# Altium integrated library TI Data Converters Analog to Digital Converter.IntLib: 2197 symbols (part 34 of 168)
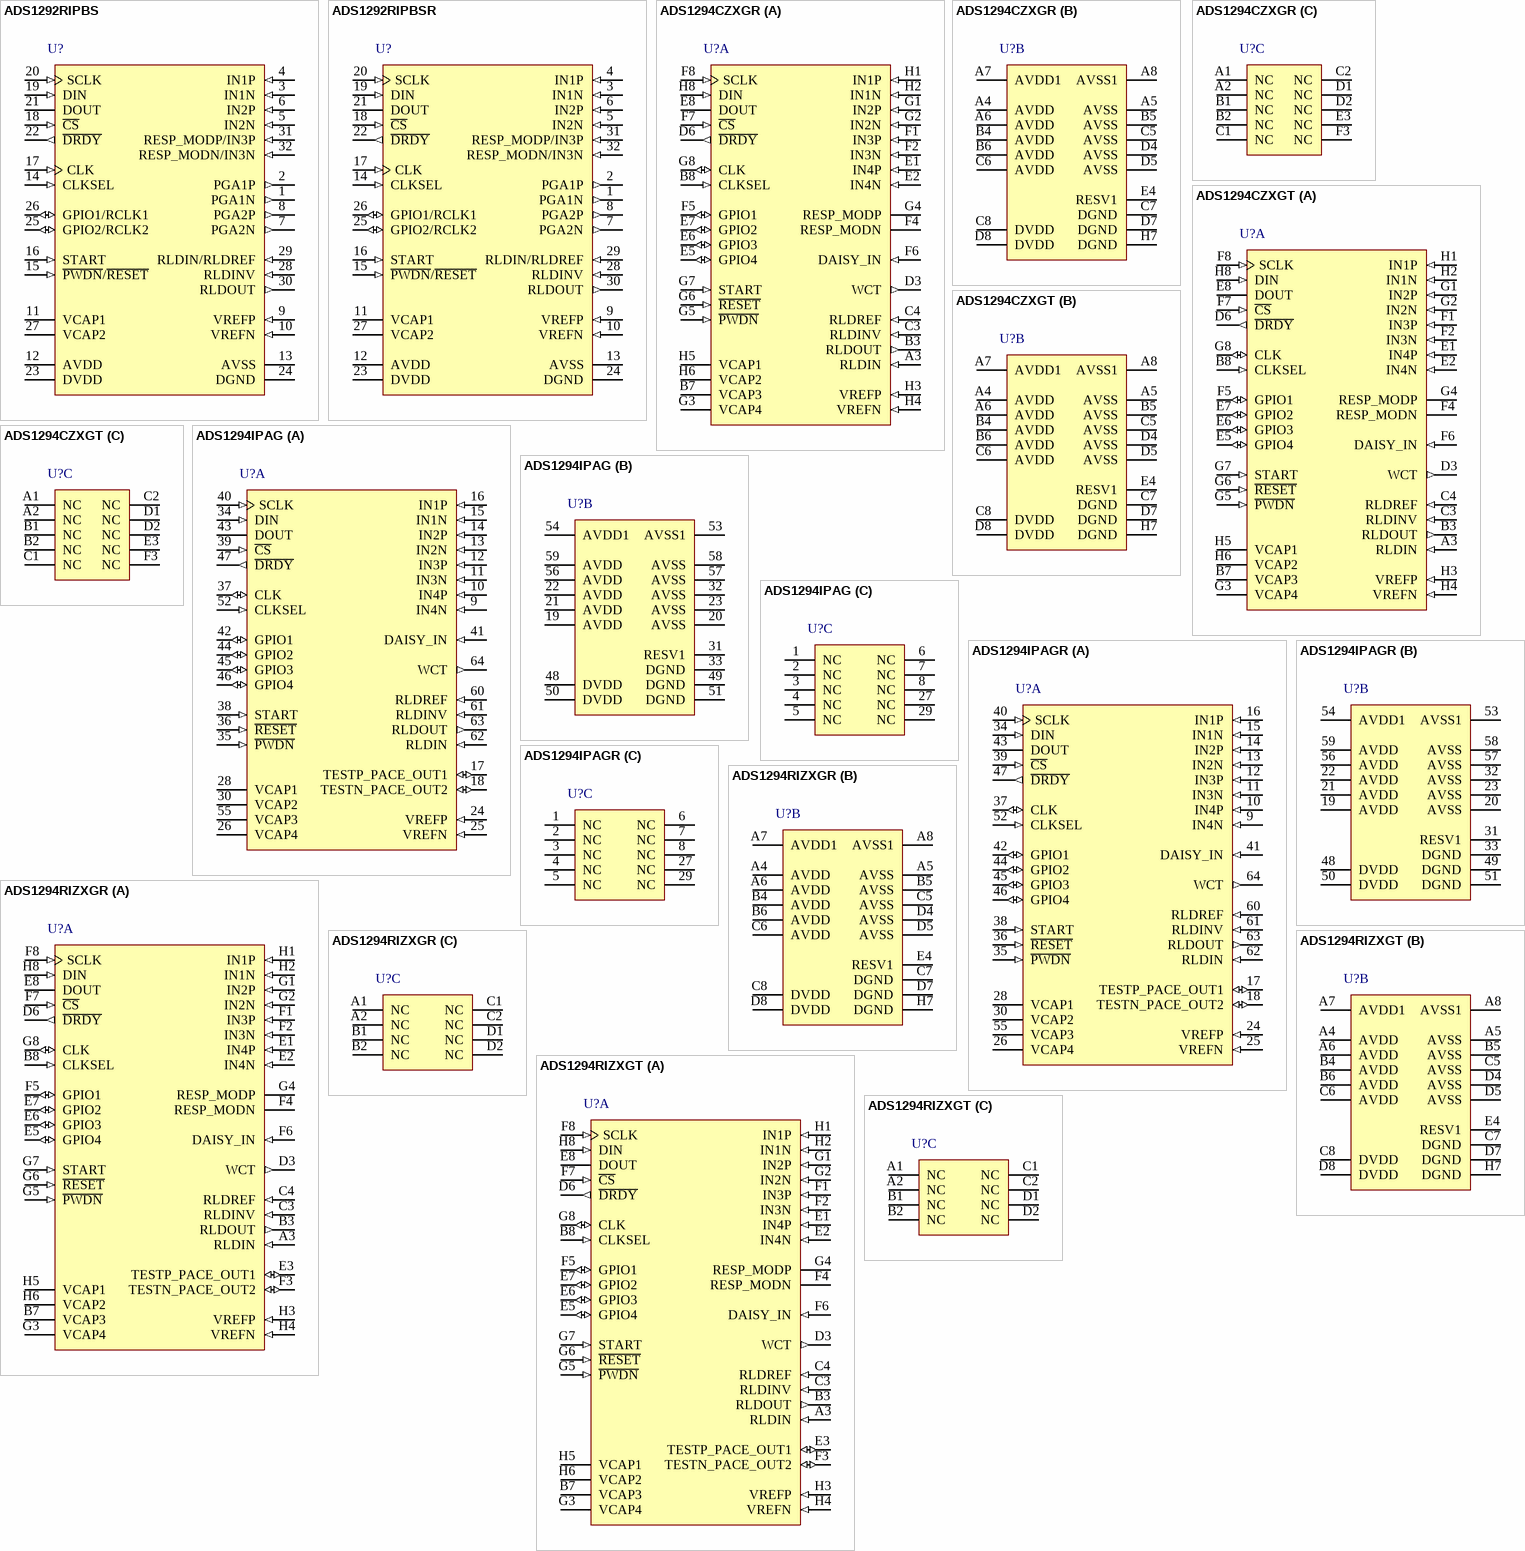
[diagram p159: symbols ADS1292RIPBS to ADS1294RIZXGT]

## ADS1294IPAG
designator U?
4-Channel, 24-Bit ADC with Integrated ECG Front End, -40 to 85 degC, 64-pin QFP (PAG64), Green (RoHS & no Sb/Br); Manufacturer: Texas Instruments; PartNumber: ADS1294IPAG; # Input Channels: 4; Analog Voltage AV/DD(Max)(V): 5.25; Analog Voltage AV/DD(Min)(V): 2.7; Architecture: Delta-Sigma; Digital Supply(Max)(V): 3.6; Digital Supply(Min)(V): 1.65; Interface: Serial SPI; Resolution(Bits): 24; Sample Rate (max)(SPS): 32k; SNR(dB): 112; SubFamily: Low Power, 8-Bit, Dual 1.5 GSPS or Single 3.0 GSPS A/D Converter; DatasheetVersion: SBAS459I; PackageVersion: 4040282/C, 11/1996; PackageReference: PAG64; PackageDescription: 64-Pin Plastic Flat Pack, Body 10 x 10 mm, Pitch 0.50 mm; Supplier 1: Digi-Key; Supplier Part Number 1: ADS1256IDBRG4-ND; Supplier 2: Mouser; Supplier Part Number 2: 595-ADS1256IDBRG4; Eco-Plan: Green (RoHS & no Sb/Br); Mounting Technology: Surface Mount; Code_JEDEC: MS-026; ComponentLink1Description: Manufacturer URL; ComponentLink1URL: http://www.ti.com/; ComponentLink2Description: Datasheet; ComponentLink2URL: http://www.ti.com/general/docs/lit/getliterature.tsp?genericPartNumber=ADS1294&fileType=pdf; ComponentLink3Description: Package Specification; ComponentLink3URL: http://www.ti.com/lit/ml/mtqf006a/mtqf006a.pdf
footprint TI-PAG64_N (QFP, 64-Leads, Body 10x10mm, Pitch 0.5mm, IPC Medium Density)
footprint TI-PAG64_L (QFP, 64-Leads, Body 10x10mm, Pitch 0.5mm, IPC High Density)
footprint TI-PAG64_M (QFP, 64-Leads, Body 10x10mm, Pitch 0.5mm, IPC Low Density)
part A pins: 9 IN4N (in) "Differential analog negative input 4", 10 IN4P (in) "Differential analog positive input 4", 11 IN3N (in) "Differential analog negative input 3", 12 IN3P (in) "Differential analog positive input 3", 13 IN2N (in) "Differential analog negative input 2", 14 IN2P (in) "Differential analog positive input 2", 15 IN1N (in) "Differential analog negative input 1", 16 IN1P (in) "Differential analog positive input 1", 17 TESTP_PACE_OUT1 (io) "Internal test signal/single-ended buffer output based on register settings", 18 TESTN_PACE_OUT2 (io) "Internal test signal/single-ended buffer output based on register settings", 24 VREFP (in) "Positive reference voltage", 25 VREFN (in) "Negative reference voltage", 26 VCAP4 "Analog bypass capacitor", 28 VCAP1 "Analog bypass capacitor", 30 VCAP2 "Analog bypass capacitor", 34 DIN (in) "SPI data in", 35 ~{PWDN} (in) "Power-down; active low", 36 ~{RESET} (in) "System reset; active low", 37 CLK (io) "External Master clock input or internal clock output.", 38 START (in) "Start conversion", 39 ~{CS} (in) "SPI chip select; active low", 40 SCLK (in) "SPI clock", 41 DAISY_IN (in) "Daisy-chain input; if not used, short to DGND.", 42 GPIO1 (io) "General-purpose input/output pin", 43 DOUT (hiz) "SPI data out", 44 GPIO2 (io) "General-purpose input/output pin", 45 GPIO3 (io) "General-purpose input/output pin", 46 GPIO4 (io) "General-purpose input/output pin", 47 ~{DRDY} (out) "Data ready; active low", 52 CLKSEL (in) "Master clock select", 55 VCAP3 "Analog bypass capacitor; internally generated AVDD + 1.9V.", 60 RLDREF (in) "Right leg drive noninverting input", 61 RLDINV (in) "Right leg drive inverting input", 62 RLDIN (in) "Right leg drive input to MUX", 63 RLDOUT (out) "Right leg drive output", 64 WCT (out) "Wilson Central Terminal output"
part B pins: 19 AVDD (power) "Analog supply", 20 AVSS (power) "Analog ground", 21 AVDD (power) "Analog supply", 22 AVDD (power) "Analog supply", 23 AVSS (power) "Analog ground", 31 RESV1 (power) "Reserved for future use; must tie to logic low (DGND).", 32 AVSS (power) "Analog ground", 33 DGND (power) "Digital ground", 48 DVDD (power) "Digital power supply", 49 DGND (power) "Digital ground", 50 DVDD (power) "Digital power supply", 51 DGND (power) "Digital ground", 53 AVSS1 (power) "Analog ground", 54 AVDD1 (power) "Analog supply", 56 AVDD (power) "Analog supply", 57 AVSS (power) "Analog ground", 58 AVSS (power) "Analog ground", 59 AVDD (power) "Analog supply"
part C pins: 1 NC "Connect unused terminals to AVDD.", 2 NC "Connect unused terminals to AVDD.", 3 NC "Connect unused terminals to AVDD.", 4 NC "Connect unused terminals to AVDD.", 5 NC "Connect unused terminals to AVDD.", 6 NC "Connect unused terminals to AVDD.", 7 NC "Connect unused terminals to AVDD.", 8 NC "Connect unused terminals to AVDD.", 27 NC "No connection", 29 NC "No connection"

## ADS1294IPAGR
designator U?
4-Channel, 24-Bit ADC with Integrated ECG Front End, -40 to 85 degC, 64-pin QFP (PAG64), Green (RoHS & no Sb/Br); Manufacturer: Texas Instruments; PartNumber: ADS1294IPAGR; # Input Channels: 4; Analog Voltage AV/DD(Max)(V): 5.25; Analog Voltage AV/DD(Min)(V): 2.7; Architecture: Delta-Sigma; Digital Supply(Max)(V): 3.6; Digital Supply(Min)(V): 1.65; Interface: Serial SPI; Resolution(Bits): 24; Sample Rate (max)(SPS): 32k; SNR(dB): 112; SubFamily: Low Power, 8-Bit, Dual 1.5 GSPS or Single 3.0 GSPS A/D Converter; DatasheetVersion: SBAS459I; PackageVersion: 4040282/C, 11/1996; PackageReference: PAG64; PackageDescription: 64-Pin Plastic Flat Pack, Body 10 x 10 mm, Pitch 0.50 mm; Supplier 1: Digi-Key; Supplier Part Number 1: 296-15208-2-ND; Supplier 2: Digi-Key; Supplier Part Number 2: 296-15208-1-ND; Supplier 3: Digi-Key; Supplier Part Number 3: 296-15208-6-ND; Supplier 4: Farnell; Supplier Part Number 4: 1470337; Supplier 5: Farnell; Supplier Part Number 5: 7454697; Supplier 6: Mouser; Supplier Part Number 6: 595-ADS1256IDBT; Eco-Plan: Green (RoHS & no Sb/Br); Mounting Technology: Surface Mount; Code_JEDEC: MS-026; ComponentLink1Description: Manufacturer URL; ComponentLink1URL: http://www.ti.com/; ComponentLink2Description: Datasheet; ComponentLink2URL: http://www.ti.com/general/docs/lit/getliterature.tsp?genericPartNumber=ADS1294&fileType=pdf; ComponentLink3Description: Package Specification; ComponentLink3URL: http://www.ti.com/lit/ml/mtqf006a/mtqf006a.pdf
footprint TI-PAG64_N (QFP, 64-Leads, Body 10x10mm, Pitch 0.5mm, IPC Medium Density)
footprint TI-PAG64_L (QFP, 64-Leads, Body 10x10mm, Pitch 0.5mm, IPC High Density)
footprint TI-PAG64_M (QFP, 64-Leads, Body 10x10mm, Pitch 0.5mm, IPC Low Density)
part A pins: 9 IN4N (in) "Differential analog negative input 4", 10 IN4P (in) "Differential analog positive input 4", 11 IN3N (in) "Differential analog negative input 3", 12 IN3P (in) "Differential analog positive input 3", 13 IN2N (in) "Differential analog negative input 2", 14 IN2P (in) "Differential analog positive input 2", 15 IN1N (in) "Differential analog negative input 1", 16 IN1P (in) "Differential analog positive input 1", 17 TESTP_PACE_OUT1 (io) "Internal test signal/single-ended buffer output based on register settings", 18 TESTN_PACE_OUT2 (io) "Internal test signal/single-ended buffer output based on register settings", 24 VREFP (in) "Positive reference voltage", 25 VREFN (in) "Negative reference voltage", 26 VCAP4 "Analog bypass capacitor", 28 VCAP1 "Analog bypass capacitor", 30 VCAP2 "Analog bypass capacitor", 34 DIN (in) "SPI data in", 35 ~{PWDN} (in) "Power-down; active low", 36 ~{RESET} (in) "System reset; active low", 37 CLK (io) "External Master clock input or internal clock output.", 38 START (in) "Start conversion", 39 ~{CS} (in) "SPI chip select; active low", 40 SCLK (in) "SPI clock", 41 DAISY_IN (in) "Daisy-chain input; if not used, short to DGND.", 42 GPIO1 (io) "General-purpose input/output pin", 43 DOUT (hiz) "SPI data out", 44 GPIO2 (io) "General-purpose input/output pin", 45 GPIO3 (io) "General-purpose input/output pin", 46 GPIO4 (io) "General-purpose input/output pin", 47 ~{DRDY} (out) "Data ready; active low", 52 CLKSEL (in) "Master clock select", 55 VCAP3 "Analog bypass capacitor; internally generated AVDD + 1.9V.", 60 RLDREF (in) "Right leg drive noninverting input", 61 RLDINV (in) "Right leg drive inverting input", 62 RLDIN (in) "Right leg drive input to MUX", 63 RLDOUT (out) "Right leg drive output", 64 WCT (out) "Wilson Central Terminal output"
part B pins: 19 AVDD (power) "Analog supply", 20 AVSS (power) "Analog ground", 21 AVDD (power) "Analog supply", 22 AVDD (power) "Analog supply", 23 AVSS (power) "Analog ground", 31 RESV1 (power) "Reserved for future use; must tie to logic low (DGND).", 32 AVSS (power) "Analog ground", 33 DGND (power) "Digital ground", 48 DVDD (power) "Digital power supply", 49 DGND (power) "Digital ground", 50 DVDD (power) "Digital power supply", 51 DGND (power) "Digital ground", 53 AVSS1 (power) "Analog ground", 54 AVDD1 (power) "Analog supply", 56 AVDD (power) "Analog supply", 57 AVSS (power) "Analog ground", 58 AVSS (power) "Analog ground", 59 AVDD (power) "Analog supply"
part C pins: 1 NC "Connect unused terminals to AVDD.", 2 NC "Connect unused terminals to AVDD.", 3 NC "Connect unused terminals to AVDD.", 4 NC "Connect unused terminals to AVDD.", 5 NC "Connect unused terminals to AVDD.", 6 NC "Connect unused terminals to AVDD.", 7 NC "Connect unused terminals to AVDD.", 8 NC "Connect unused terminals to AVDD.", 27 NC "No connection", 29 NC "No connection"

## ADS1294RIZXGR
designator U?
4-Channel, 24-Bit ADC with Integrated Respiration Impedance and ECG Front End, -40 to 85 degC, 64-pin BGA (ZXG64), Green (RoHS & no Sb/Br); Manufacturer: Texas Instruments; PartNumber: ADS1294RIZXGR; # Input Channels: 4; Analog Voltage AV/DD(Max)(V): 5.25; Analog Voltage AV/DD(Min)(V): 2.7; Architecture: Delta-Sigma; Digital Supply(Max)(V): 3.6; Digital Supply(Min)(V): 1.65; Interface: Serial SPI; Resolution(Bits): 24; Sample Rate (max)(SPS): 32k; SNR(dB): 112; SubFamily: Low Power, 8-Bit, Dual 1.5 GSPS or Single 3.0 GSPS A/D Converter; DatasheetVersion: SBAS459I; PackageVersion: 4206838/A, 02/2005; PackageReference: ZXG64; PackageDescription: 64-Pin Plastic Ball Grid Array, Body 8 x 8 mm, Pitch 0.8 mm; Supplier 1: Digi-Key; Supplier Part Number 1: ADS1256IDBTG4-ND; Supplier 2: Farnell; Supplier Part Number 2: 1234759; Supplier 3: Mouser; Supplier Part Number 3: 595-ADS1256IDBTG4; Eco-Plan: Green (RoHS & no Sb/Br); Mounting Technology: Surface Mount; ComponentLink1Description: Manufacturer URL; ComponentLink1URL: http://www.ti.com/; ComponentLink2Description: Datasheet; ComponentLink2URL: http://www.ti.com/general/docs/lit/getliterature.tsp?genericPartNumber=ADS1294R&fileType=pdf; ComponentLink3Description: Package Specification; ComponentLink3URL: http://www.ti.com/litv/pdf/mpbg581
footprint TI-ZXG64 (BGA, 64-Balls, Body 8x8mm, Pitch 0.8mm)
part A pins: A3 RLDIN (in) "Right leg drive input to MUX", B3 RLDOUT (out) "Right leg drive output", B7 VCAP3 "Analog bypass capacitor; internally generated AVDD + 1.9V.", B8 CLKSEL (in) "Master clock select", C3 RLDINV (in) "Right leg drive inverting input", C4 RLDREF (in) "Right leg drive noninverting input", D3 WCT (out) "Wilson Central Terminal output", D6 ~{DRDY} (out) "Data ready; active low", E1 IN4P (in) "Differential analog positive input 4", E2 IN4N (in) "Differential analog negative input 4", E3 TESTP_PACE_OUT1 (io) "Internal test signal/single-ended buffer output based on register settings", E5 GPIO4 (io) "GPIO4 in normal mode", E6 GPIO3 (io) "GPIO3 in normal mode", E7 GPIO2 (io) "General-purpose input/output pin", E8 DOUT (hiz) "SPI data out", F1 IN3P (in) "Differential analog positive input 3", F2 IN3N (in) "Differential analog negative input 3", F3 TESTN_PACE_OUT2 (io) "Internal test signal/single-ended buffer output based on register settings", F4 RESP_MODN "ADS1294R/6R/8R: modulation clock for respiration measurement, negative side. ADS1294/6/8: leave floating.", F5 GPIO1 (io) "General purpose input/output pin", F6 DAISY_IN (in) "Daisy-chain input; if not used, short to DGND.", F7 ~{CS} (in) "SPI chip select; active low", F8 SCLK (in) "SPI clock", G1 IN2P (in) "Differential analog positive input 2", G2 IN2N (in) "Differential analog negative input 2", G3 VCAP4 "Analog bypass capacitor", G4 RESP_MODP "ADS1294R/6R/8R: modulation clock for respiration measurement, positive side. ADS1294/6/8: leave floating.", G5 ~{PWDN} (in) "Power-down; active low", G6 ~{RESET} (in) "System reset; active low", G7 START (in) "Start conversion", G8 CLK (io) "External Master clock input or internal clock output.", H1 IN1P (in) "Differential analog positive input 1", H2 IN1N (in) "Differential analog negative input 1", H3 VREFP (in) "Positive reference voltage", H4 VREFN (in) "Negative reference voltage", H5 VCAP1 "Analog bypass capacitor", H6 VCAP2 "Analog bypass capacitor", H8 DIN (in) "SPI data in"
part B pins: A4 AVDD (power) "Analog supply", A5 AVSS (power) "Analog ground", A6 AVDD (power) "Analog supply", A7 AVDD1 (power) "Analog supply for charge pump", A8 AVSS1 (power) "Analog ground for charge pump", B4 AVDD (power) "Analog supply", B5 AVSS (power) "Analog ground", B6 AVDD (power) "Analog supply", C5 AVSS (power) "Analog ground", C6 AVDD (power) "Analog supply", C7 DGND (power) "Digital ground", C8 DVDD (power) "Digital power supply", D4 AVSS (power) "Analog ground", D5 AVSS (power) "Analog ground", D7 DGND (power) "Digital ground", D8 DVDD (power) "Digital power supply", E4 RESV1 (power) "Reserved for future use; must tie to logic low (DGND).", H7 DGND (power) "Digital ground"
part C pins: A1 NC "Connect unused terminals to AVDD.", A2 NC "Connect unused terminals to AVDD.", B1 NC "Connect unused terminals to AVDD.", B2 NC "Connect unused terminals to AVDD.", C1 NC "Connect unused terminals to AVDD.", C2 NC "Connect unused terminals to AVDD.", D1 NC "Connect unused terminals to AVDD.", D2 NC "Connect unused terminals to AVDD."

## ADS1294RIZXGT
designator U?
4-Channel, 24-Bit ADC with Integrated Respiration Impedance and ECG Front End, -40 to 85 degC, 64-pin BGA (ZXG64), Green (RoHS & no Sb/Br); Manufacturer: Texas Instruments; PartNumber: ADS1294RIZXGT; # Input Channels: 4; Analog Voltage AV/DD(Max)(V): 5.25; Analog Voltage AV/DD(Min)(V): 2.7; Architecture: Delta-Sigma; Digital Supply(Max)(V): 3.6; Digital Supply(Min)(V): 1.65; Interface: Serial SPI; Resolution(Bits): 24; Sample Rate (max)(SPS): 32k; SNR(dB): 112; SubFamily: Low Power, 8-Bit, Dual 1.5 GSPS or Single 3.0 GSPS A/D Converter; DatasheetVersion: SBAS459I; PackageVersion: 4206838/A, 02/2005; PackageReference: ZXG64; PackageDescription: 64-Pin Plastic Ball Grid Array, Body 8 x 8 mm, Pitch 0.8 mm; Supplier 1: Digi-Key; Supplier Part Number 1: 296-14757-5-ND; Supplier 2: Farnell; Supplier Part Number 2: 2119392; Supplier 3: Mouser; Supplier Part Number 3: 595-ADS7871IDB; Eco-Plan: Green (RoHS & no Sb/Br); Mounting Technology: Surface Mount; ComponentLink1Description: Manufacturer URL; ComponentLink1URL: http://www.ti.com/; ComponentLink2Description: Datasheet; ComponentLink2URL: http://www.ti.com/general/docs/lit/getliterature.tsp?genericPartNumber=ADS1294R&fileType=pdf; ComponentLink3Description: Package Specification; ComponentLink3URL: http://www.ti.com/litv/pdf/mpbg581
footprint TI-ZXG64 (BGA, 64-Balls, Body 8x8mm, Pitch 0.8mm)
part A pins: A3 RLDIN (in) "Right leg drive input to MUX", B3 RLDOUT (out) "Right leg drive output", B7 VCAP3 "Analog bypass capacitor; internally generated AVDD + 1.9V.", B8 CLKSEL (in) "Master clock select", C3 RLDINV (in) "Right leg drive inverting input", C4 RLDREF (in) "Right leg drive noninverting input", D3 WCT (out) "Wilson Central Terminal output", D6 ~{DRDY} (out) "Data ready; active low", E1 IN4P (in) "Differential analog positive input 4", E2 IN4N (in) "Differential analog negative input 4", E3 TESTP_PACE_OUT1 (io) "Internal test signal/single-ended buffer output based on register settings", E5 GPIO4 (io) "GPIO4 in normal mode", E6 GPIO3 (io) "GPIO3 in normal mode", E7 GPIO2 (io) "General-purpose input/output pin", E8 DOUT (hiz) "SPI data out", F1 IN3P (in) "Differential analog positive input 3", F2 IN3N (in) "Differential analog negative input 3", F3 TESTN_PACE_OUT2 (io) "Internal test signal/single-ended buffer output based on register settings", F4 RESP_MODN "ADS1294R/6R/8R: modulation clock for respiration measurement, negative side. ADS1294/6/8: leave floating.", F5 GPIO1 (io) "General purpose input/output pin", F6 DAISY_IN (in) "Daisy-chain input; if not used, short to DGND.", F7 ~{CS} (in) "SPI chip select; active low", F8 SCLK (in) "SPI clock", G1 IN2P (in) "Differential analog positive input 2", G2 IN2N (in) "Differential analog negative input 2", G3 VCAP4 "Analog bypass capacitor", G4 RESP_MODP "ADS1294R/6R/8R: modulation clock for respiration measurement, positive side. ADS1294/6/8: leave floating.", G5 ~{PWDN} (in) "Power-down; active low", G6 ~{RESET} (in) "System reset; active low", G7 START (in) "Start conversion", G8 CLK (io) "External Master clock input or internal clock output.", H1 IN1P (in) "Differential analog positive input 1", H2 IN1N (in) "Differential analog negative input 1", H3 VREFP (in) "Positive reference voltage", H4 VREFN (in) "Negative reference voltage", H5 VCAP1 "Analog bypass capacitor", H6 VCAP2 "Analog bypass capacitor", H8 DIN (in) "SPI data in"
part B pins: A4 AVDD (power) "Analog supply", A5 AVSS (power) "Analog ground", A6 AVDD (power) "Analog supply", A7 AVDD1 (power) "Analog supply for charge pump", A8 AVSS1 (power) "Analog ground for charge pump", B4 AVDD (power) "Analog supply", B5 AVSS (power) "Analog ground", B6 AVDD (power) "Analog supply", C5 AVSS (power) "Analog ground", C6 AVDD (power) "Analog supply", C7 DGND (power) "Digital ground", C8 DVDD (power) "Digital power supply", D4 AVSS (power) "Analog ground", D5 AVSS (power) "Analog ground", D7 DGND (power) "Digital ground", D8 DVDD (power) "Digital power supply", E4 RESV1 (power) "Reserved for future use; must tie to logic low (DGND).", H7 DGND (power) "Digital ground"
part C pins: A1 NC "Connect unused terminals to AVDD.", A2 NC "Connect unused terminals to AVDD.", B1 NC "Connect unused terminals to AVDD.", B2 NC "Connect unused terminals to AVDD.", C1 NC "Connect unused terminals to AVDD.", C2 NC "Connect unused terminals to AVDD.", D1 NC "Connect unused terminals to AVDD.", D2 NC "Connect unused terminals to AVDD."

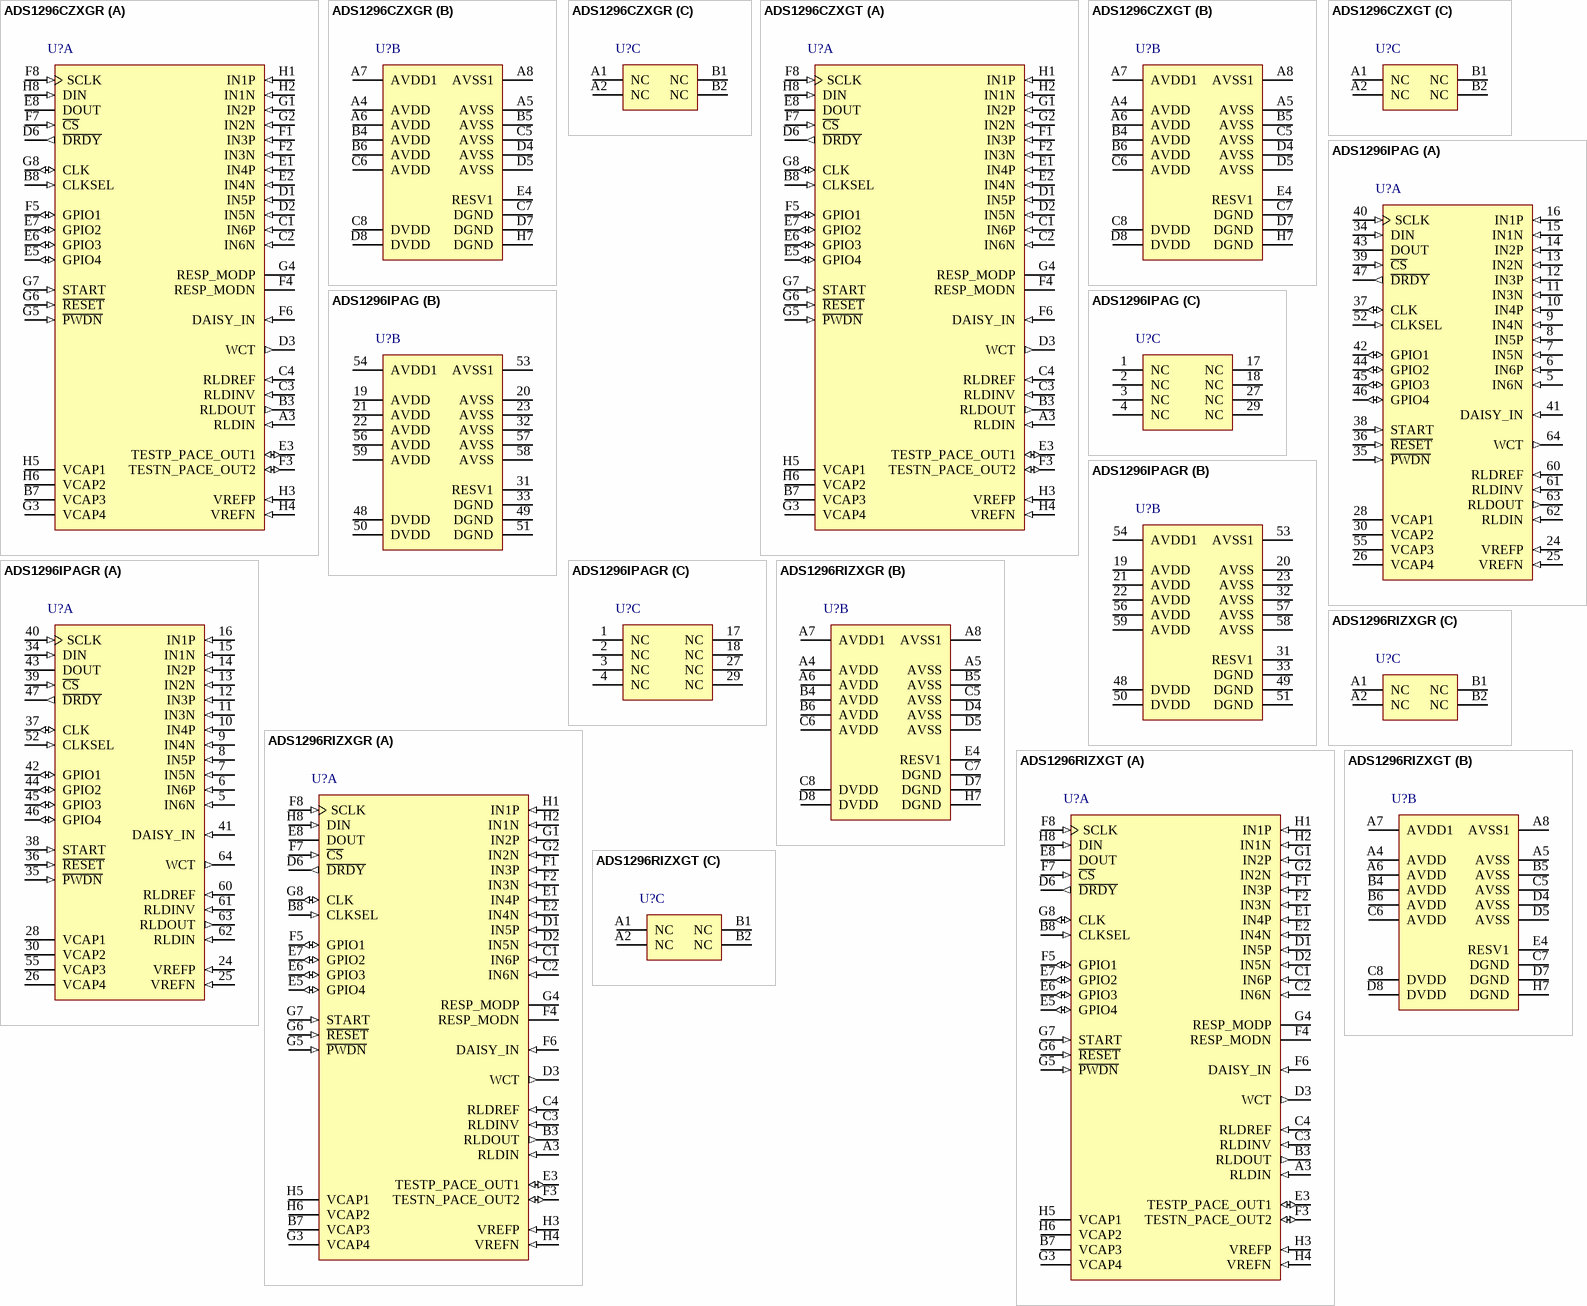
[diagram p27: symbols ADS1296CZXGR to ADS1296RIZXGT]

## ADS1296CZXGR
designator U?
6-Channel, 24-Bit ADC with Integrated ECG Front End, 0 to 70 degC, 64-pin BGA (ZXG64), Green (RoHS & no Sb/Br); Manufacturer: Texas Instruments; PartNumber: ADS1296CZXGR; # Input Channels: 6; Analog Voltage AV/DD(Max)(V): 5.25; Analog Voltage AV/DD(Min)(V): 2.7; Architecture: Delta-Sigma; Digital Supply(Max)(V): 3.6; Digital Supply(Min)(V): 1.65; Interface: Serial SPI; Resolution(Bits): 24; Sample Rate (max)(SPS): 32k; SNR(dB): 112; SubFamily: Low Power, 8-Bit, Dual 1.5 GSPS or Single 3.0 GSPS A/D Converter; DatasheetVersion: SBAS459I; PackageVersion: 4206838/A, 02/2005; PackageReference: ZXG64; PackageDescription: 64-Pin Plastic Ball Grid Array, Body 8 x 8 mm, Pitch 0.8 mm; Supplier 1: Digi-Key; Supplier Part Number 1: 296-27959-5-ND; Supplier 2: Farnell; Supplier Part Number 2: 1206876; Supplier 3: Mouser; Supplier Part Number 3: 595-ADS7871IDBG4; Eco-Plan: Green (RoHS & no Sb/Br); Mounting Technology: Surface Mount; ComponentLink1Description: Manufacturer URL; ComponentLink1URL: http://www.ti.com/; ComponentLink2Description: Datasheet; ComponentLink2URL: http://www.ti.com/general/docs/lit/getliterature.tsp?genericPartNumber=ADS1296&fileType=pdf; ComponentLink3Description: Package Specification; ComponentLink3URL: http://www.ti.com/litv/pdf/mpbg581
footprint TI-ZXG64 (BGA, 64-Balls, Body 8x8mm, Pitch 0.8mm)
part A pins: A3 RLDIN (in) "Right leg drive input to MUX", B3 RLDOUT (out) "Right leg drive output", B7 VCAP3 "Analog bypass capacitor; internally generated AVDD + 1.9V.", B8 CLKSEL (in) "Master clock select", C1 IN6P (in) "Differential analog positive input 6 (ADS1296/8/6R/8R)", C2 IN6N (in) "Differential analog negative input 6 (ADS1296/8/6R/8R)", C3 RLDINV (in) "Right leg drive inverting input", C4 RLDREF (in) "Right leg drive noninverting input", D1 IN5P (in) "Differential analog positive input 5 (ADS1296/8/6R/8R)", D2 IN5N (in) "Differential analog negative input 5 (ADS1296/8/6R/8R)", D3 WCT (out) "Wilson Central Terminal output", D6 ~{DRDY} (out) "Data ready; active low", E1 IN4P (in) "Differential analog positive input 4", E2 IN4N (in) "Differential analog negative input 4", E3 TESTP_PACE_OUT1 (io) "Internal test signal/single-ended buffer output based on register settings", E5 GPIO4 (io) "GPIO4 in normal mode", E6 GPIO3 (io) "GPIO3 in normal mode", E7 GPIO2 (io) "General-purpose input/output pin", E8 DOUT (hiz) "SPI data out", F1 IN3P (in) "Differential analog positive input 3", F2 IN3N (in) "Differential analog negative input 3", F3 TESTN_PACE_OUT2 (io) "Internal test signal/single-ended buffer output based on register settings", F4 RESP_MODN "ADS1294R/6R/8R: modulation clock for respiration measurement, negative side. ADS1294/6/8: leave floating.", F5 GPIO1 (io) "General purpose input/output pin", F6 DAISY_IN (in) "Daisy-chain input; if not used, short to DGND.", F7 ~{CS} (in) "SPI chip select; active low", F8 SCLK (in) "SPI clock", G1 IN2P (in) "Differential analog positive input 2", G2 IN2N (in) "Differential analog negative input 2", G3 VCAP4 "Analog bypass capacitor", G4 RESP_MODP "ADS1294R/6R/8R: modulation clock for respiration measurement, positive side. ADS1294/6/8: leave floating.", G5 ~{PWDN} (in) "Power-down; active low", G6 ~{RESET} (in) "System reset; active low", G7 START (in) "Start conversion", G8 CLK (io) "External Master clock input or internal clock output.", H1 IN1P (in) "Differential analog positive input 1", H2 IN1N (in) "Differential analog negative input 1", H3 VREFP (in) "Positive reference voltage", H4 VREFN (in) "Negative reference voltage", H5 VCAP1 "Analog bypass capacitor", H6 VCAP2 "Analog bypass capacitor", H8 DIN (in) "SPI data in"
part B pins: A4 AVDD (power) "Analog supply", A5 AVSS (power) "Analog ground", A6 AVDD (power) "Analog supply", A7 AVDD1 (power) "Analog supply for charge pump", A8 AVSS1 (power) "Analog ground for charge pump", B4 AVDD (power) "Analog supply", B5 AVSS (power) "Analog ground", B6 AVDD (power) "Analog supply", C5 AVSS (power) "Analog ground", C6 AVDD (power) "Analog supply", C7 DGND (power) "Digital ground", C8 DVDD (power) "Digital power supply", D4 AVSS (power) "Analog ground", D5 AVSS (power) "Analog ground", D7 DGND (power) "Digital ground", D8 DVDD (power) "Digital power supply", E4 RESV1 (power) "Reserved for future use; must tie to logic low (DGND).", H7 DGND (power) "Digital ground"
part C pins: A1 NC "Connect unused terminals to AVDD.", A2 NC "Connect unused terminals to AVDD.", B1 NC "Connect unused terminals to AVDD.", B2 NC "Connect unused terminals to AVDD."

## ADS1296CZXGT
designator U?
6-Channel, 24-Bit ADC with Integrated ECG Front End, 0 to 70 degC, 64-pin BGA (ZXG64), Green (RoHS & no Sb/Br); Manufacturer: Texas Instruments; PartNumber: ADS1296CZXGT; # Input Channels: 6; Analog Voltage AV/DD(Max)(V): 5.25; Analog Voltage AV/DD(Min)(V): 2.7; Architecture: Delta-Sigma; Digital Supply(Max)(V): 3.6; Digital Supply(Min)(V): 1.65; Interface: Serial SPI; Resolution(Bits): 24; Sample Rate (max)(SPS): 32k; SNR(dB): 112; SubFamily: Low Power, 8-Bit, Dual 1.5 GSPS or Single 3.0 GSPS A/D Converter; DatasheetVersion: SBAS459I; PackageVersion: 4206838/A, 02/2005; PackageReference: ZXG64; PackageDescription: 64-Pin Plastic Ball Grid Array, Body 8 x 8 mm, Pitch 0.8 mm; Supplier 1: Digi-Key; Supplier Part Number 1: ADS7871IDBR-ND; Supplier 2: Mouser; Supplier Part Number 2: 595-ADS7871IDBR; Eco-Plan: Green (RoHS & no Sb/Br); Mounting Technology: Surface Mount; ComponentLink1Description: Manufacturer URL; ComponentLink1URL: http://www.ti.com/; ComponentLink2Description: Datasheet; ComponentLink2URL: http://www.ti.com/general/docs/lit/getliterature.tsp?genericPartNumber=ADS1296&fileType=pdf; ComponentLink3Description: Package Specification; ComponentLink3URL: http://www.ti.com/litv/pdf/mpbg581
footprint TI-ZXG64 (BGA, 64-Balls, Body 8x8mm, Pitch 0.8mm)
part A pins: A3 RLDIN (in) "Right leg drive input to MUX", B3 RLDOUT (out) "Right leg drive output", B7 VCAP3 "Analog bypass capacitor; internally generated AVDD + 1.9V.", B8 CLKSEL (in) "Master clock select", C1 IN6P (in) "Differential analog positive input 6 (ADS1296/8/6R/8R)", C2 IN6N (in) "Differential analog negative input 6 (ADS1296/8/6R/8R)", C3 RLDINV (in) "Right leg drive inverting input", C4 RLDREF (in) "Right leg drive noninverting input", D1 IN5P (in) "Differential analog positive input 5 (ADS1296/8/6R/8R)", D2 IN5N (in) "Differential analog negative input 5 (ADS1296/8/6R/8R)", D3 WCT (out) "Wilson Central Terminal output", D6 ~{DRDY} (out) "Data ready; active low", E1 IN4P (in) "Differential analog positive input 4", E2 IN4N (in) "Differential analog negative input 4", E3 TESTP_PACE_OUT1 (io) "Internal test signal/single-ended buffer output based on register settings", E5 GPIO4 (io) "GPIO4 in normal mode", E6 GPIO3 (io) "GPIO3 in normal mode", E7 GPIO2 (io) "General-purpose input/output pin", E8 DOUT (hiz) "SPI data out", F1 IN3P (in) "Differential analog positive input 3", F2 IN3N (in) "Differential analog negative input 3", F3 TESTN_PACE_OUT2 (io) "Internal test signal/single-ended buffer output based on register settings", F4 RESP_MODN "ADS1294R/6R/8R: modulation clock for respiration measurement, negative side. ADS1294/6/8: leave floating.", F5 GPIO1 (io) "General purpose input/output pin", F6 DAISY_IN (in) "Daisy-chain input; if not used, short to DGND.", F7 ~{CS} (in) "SPI chip select; active low", F8 SCLK (in) "SPI clock", G1 IN2P (in) "Differential analog positive input 2", G2 IN2N (in) "Differential analog negative input 2", G3 VCAP4 "Analog bypass capacitor", G4 RESP_MODP "ADS1294R/6R/8R: modulation clock for respiration measurement, positive side. ADS1294/6/8: leave floating.", G5 ~{PWDN} (in) "Power-down; active low", G6 ~{RESET} (in) "System reset; active low", G7 START (in) "Start conversion", G8 CLK (io) "External Master clock input or internal clock output.", H1 IN1P (in) "Differential analog positive input 1", H2 IN1N (in) "Differential analog negative input 1", H3 VREFP (in) "Positive reference voltage", H4 VREFN (in) "Negative reference voltage", H5 VCAP1 "Analog bypass capacitor", H6 VCAP2 "Analog bypass capacitor", H8 DIN (in) "SPI data in"
part B pins: A4 AVDD (power) "Analog supply", A5 AVSS (power) "Analog ground", A6 AVDD (power) "Analog supply", A7 AVDD1 (power) "Analog supply for charge pump", A8 AVSS1 (power) "Analog ground for charge pump", B4 AVDD (power) "Analog supply", B5 AVSS (power) "Analog ground", B6 AVDD (power) "Analog supply", C5 AVSS (power) "Analog ground", C6 AVDD (power) "Analog supply", C7 DGND (power) "Digital ground", C8 DVDD (power) "Digital power supply", D4 AVSS (power) "Analog ground", D5 AVSS (power) "Analog ground", D7 DGND (power) "Digital ground", D8 DVDD (power) "Digital power supply", E4 RESV1 (power) "Reserved for future use; must tie to logic low (DGND).", H7 DGND (power) "Digital ground"
part C pins: A1 NC "Connect unused terminals to AVDD.", A2 NC "Connect unused terminals to AVDD.", B1 NC "Connect unused terminals to AVDD.", B2 NC "Connect unused terminals to AVDD."

## ADS1296IPAG
designator U?
6-Channel, 24-Bit ADC with Integrated ECG Front End, -40 to 85 degC, 64-pin QFP (PAG64), Green (RoHS & no Sb/Br); Manufacturer: Texas Instruments; PartNumber: ADS1296IPAG; # Input Channels: 6; Analog Voltage AV/DD(Max)(V): 5.25; Analog Voltage AV/DD(Min)(V): 2.7; Architecture: Delta-Sigma; Digital Supply(Max)(V): 3.6; Digital Supply(Min)(V): 1.65; Interface: Serial SPI; Resolution(Bits): 24; Sample Rate (max)(SPS): 32k; SNR(dB): 112; SubFamily: Low Power, 8-Bit, Dual 1.5 GSPS or Single 3.0 GSPS A/D Converter; DatasheetVersion: SBAS459I; PackageVersion: 4040282/C, 11/1996; PackageReference: PAG64; PackageDescription: 64-Pin Plastic Flat Pack, Body 10 x 10 mm, Pitch 0.50 mm; Supplier 1: Digi-Key; Supplier Part Number 1: ADS7871IDBRG4-ND; Supplier 2: Mouser; Supplier Part Number 2: 595-ADS7871IDBRG4; Eco-Plan: Green (RoHS & no Sb/Br); Mounting Technology: Surface Mount; Code_JEDEC: MS-026; ComponentLink1Description: Manufacturer URL; ComponentLink1URL: http://www.ti.com/; ComponentLink2Description: Datasheet; ComponentLink2URL: http://www.ti.com/general/docs/lit/getliterature.tsp?genericPartNumber=ADS1296&fileType=pdf; ComponentLink3Description: Package Specification; ComponentLink3URL: http://www.ti.com/lit/ml/mtqf006a/mtqf006a.pdf
footprint TI-PAG64_N (QFP, 64-Leads, Body 10x10mm, Pitch 0.5mm, IPC Medium Density)
footprint TI-PAG64_L (QFP, 64-Leads, Body 10x10mm, Pitch 0.5mm, IPC High Density)
footprint TI-PAG64_M (QFP, 64-Leads, Body 10x10mm, Pitch 0.5mm, IPC Low Density)
part A pins: 5 IN6N (in) "Differential analog negative input 6 (ADS1296/8)", 6 IN6P (in) "Differential analog positive input 6 (ADS1296/8)", 7 IN5N (in) "Differential analog negative input 5 (ADS1296/8)", 8 IN5P (in) "Differential analog positive input 5 (ADS1296/8)", 9 IN4N (in) "Differential analog negative input 4", 10 IN4P (in) "Differential analog positive input 4", 11 IN3N (in) "Differential analog negative input 3", 12 IN3P (in) "Differential analog positive input 3", 13 IN2N (in) "Differential analog negative input 2", 14 IN2P (in) "Differential analog positive input 2", 15 IN1N (in) "Differential analog negative input 1", 16 IN1P (in) "Differential analog positive input 1", 24 VREFP (in) "Positive reference voltage", 25 VREFN (in) "Negative reference voltage", 26 VCAP4 "Analog bypass capacitor", 28 VCAP1 "Analog bypass capacitor", 30 VCAP2 "Analog bypass capacitor", 34 DIN (in) "SPI data in", 35 ~{PWDN} (in) "Power-down; active low", 36 ~{RESET} (in) "System reset; active low", 37 CLK (io) "External Master clock input or internal clock output.", 38 START (in) "Start conversion", 39 ~{CS} (in) "SPI chip select; active low", 40 SCLK (in) "SPI clock", 41 DAISY_IN (in) "Daisy-chain input; if not used, short to DGND.", 42 GPIO1 (io) "General-purpose input/output pin", 43 DOUT (hiz) "SPI data out", 44 GPIO2 (io) "General-purpose input/output pin", 45 GPIO3 (io) "General-purpose input/output pin", 46 GPIO4 (io) "General-purpose input/output pin", 47 ~{DRDY} (out) "Data ready; active low", 52 CLKSEL (in) "Master clock select", 55 VCAP3 "Analog bypass capacitor; internally generated AVDD + 1.9V.", 60 RLDREF (in) "Right leg drive noninverting input", 61 RLDINV (in) "Right leg drive inverting input", 62 RLDIN (in) "Right leg drive input to MUX", 63 RLDOUT (out) "Right leg drive output", 64 WCT (out) "Wilson Central Terminal output"
part B pins: 19 AVDD (power) "Analog supply", 20 AVSS (power) "Analog ground", 21 AVDD (power) "Analog supply", 22 AVDD (power) "Analog supply", 23 AVSS (power) "Analog ground", 31 RESV1 (power) "Reserved for future use; must tie to logic low (DGND).", 32 AVSS (power) "Analog ground", 33 DGND (power) "Digital ground", 48 DVDD (power) "Digital power supply", 49 DGND (power) "Digital ground", 50 DVDD (power) "Digital power supply", 51 DGND (power) "Digital ground", 53 AVSS1 (power) "Analog ground", 54 AVDD1 (power) "Analog supply", 56 AVDD (power) "Analog supply", 57 AVSS (power) "Analog ground", 58 AVSS (power) "Analog ground", 59 AVDD (power) "Analog supply"
part C pins: 1 NC "Connect unused terminals to AVDD.", 2 NC "Connect unused terminals to AVDD.", 3 NC "Connect unused terminals to AVDD.", 4 NC "Connect unused terminals to AVDD.", 17 NC "Connect unused terminals to AVDD.", 18 NC "Connect unused terminals to AVDD.", 27 NC "No connection", 29 NC "No connection"

## ADS1296IPAGR
designator U?
6-Channel, 24-Bit ADC with Integrated ECG Front End, -40 to 85 degC, 64-pin QFP (PAG64), Green (RoHS & no Sb/Br); Manufacturer: Texas Instruments; PartNumber: ADS1296IPAGR; # Input Channels: 6; Analog Voltage AV/DD(Max)(V): 5.25; Analog Voltage AV/DD(Min)(V): 2.7; Architecture: Delta-Sigma; Digital Supply(Max)(V): 3.6; Digital Supply(Min)(V): 1.65; Interface: Serial SPI; Resolution(Bits): 24; Sample Rate (max)(SPS): 32k; SNR(dB): 112; SubFamily: Low Power, 8-Bit, Dual 1.5 GSPS or Single 3.0 GSPS A/D Converter; DatasheetVersion: SBAS459I; PackageVersion: 4040282/C, 11/1996; PackageReference: PAG64; PackageDescription: 64-Pin Plastic Flat Pack, Body 10 x 10 mm, Pitch 0.50 mm; Supplier 1: Digi-Key; Supplier Part Number 1: ADS1241E-ND; Supplier 2: Farnell; Supplier Part Number 2: 1214422; Supplier 3: Mouser; Supplier Part Number 3: 595-ADS1241E; Eco-Plan: Green (RoHS & no Sb/Br); Mounting Technology: Surface Mount; Code_JEDEC: MS-026; ComponentLink1Description: Manufacturer URL; ComponentLink1URL: http://www.ti.com/; ComponentLink2Description: Datasheet; ComponentLink2URL: http://www.ti.com/general/docs/lit/getliterature.tsp?genericPartNumber=ADS1296&fileType=pdf; ComponentLink3Description: Package Specification; ComponentLink3URL: http://www.ti.com/lit/ml/mtqf006a/mtqf006a.pdf
footprint TI-PAG64_N (QFP, 64-Leads, Body 10x10mm, Pitch 0.5mm, IPC Medium Density)
footprint TI-PAG64_L (QFP, 64-Leads, Body 10x10mm, Pitch 0.5mm, IPC High Density)
footprint TI-PAG64_M (QFP, 64-Leads, Body 10x10mm, Pitch 0.5mm, IPC Low Density)
part A pins: 5 IN6N (in) "Differential analog negative input 6 (ADS1296/8)", 6 IN6P (in) "Differential analog positive input 6 (ADS1296/8)", 7 IN5N (in) "Differential analog negative input 5 (ADS1296/8)", 8 IN5P (in) "Differential analog positive input 5 (ADS1296/8)", 9 IN4N (in) "Differential analog negative input 4", 10 IN4P (in) "Differential analog positive input 4", 11 IN3N (in) "Differential analog negative input 3", 12 IN3P (in) "Differential analog positive input 3", 13 IN2N (in) "Differential analog negative input 2", 14 IN2P (in) "Differential analog positive input 2", 15 IN1N (in) "Differential analog negative input 1", 16 IN1P (in) "Differential analog positive input 1", 24 VREFP (in) "Positive reference voltage", 25 VREFN (in) "Negative reference voltage", 26 VCAP4 "Analog bypass capacitor", 28 VCAP1 "Analog bypass capacitor", 30 VCAP2 "Analog bypass capacitor", 34 DIN (in) "SPI data in", 35 ~{PWDN} (in) "Power-down; active low", 36 ~{RESET} (in) "System reset; active low", 37 CLK (io) "External Master clock input or internal clock output.", 38 START (in) "Start conversion", 39 ~{CS} (in) "SPI chip select; active low", 40 SCLK (in) "SPI clock", 41 DAISY_IN (in) "Daisy-chain input; if not used, short to DGND.", 42 GPIO1 (io) "General-purpose input/output pin", 43 DOUT (hiz) "SPI data out", 44 GPIO2 (io) "General-purpose input/output pin", 45 GPIO3 (io) "General-purpose input/output pin", 46 GPIO4 (io) "General-purpose input/output pin", 47 ~{DRDY} (out) "Data ready; active low", 52 CLKSEL (in) "Master clock select", 55 VCAP3 "Analog bypass capacitor; internally generated AVDD + 1.9V.", 60 RLDREF (in) "Right leg drive noninverting input", 61 RLDINV (in) "Right leg drive inverting input", 62 RLDIN (in) "Right leg drive input to MUX", 63 RLDOUT (out) "Right leg drive output", 64 WCT (out) "Wilson Central Terminal output"
part B pins: 19 AVDD (power) "Analog supply", 20 AVSS (power) "Analog ground", 21 AVDD (power) "Analog supply", 22 AVDD (power) "Analog supply", 23 AVSS (power) "Analog ground", 31 RESV1 (power) "Reserved for future use; must tie to logic low (DGND).", 32 AVSS (power) "Analog ground", 33 DGND (power) "Digital ground", 48 DVDD (power) "Digital power supply", 49 DGND (power) "Digital ground", 50 DVDD (power) "Digital power supply", 51 DGND (power) "Digital ground", 53 AVSS1 (power) "Analog ground", 54 AVDD1 (power) "Analog supply", 56 AVDD (power) "Analog supply", 57 AVSS (power) "Analog ground", 58 AVSS (power) "Analog ground", 59 AVDD (power) "Analog supply"
part C pins: 1 NC "Connect unused terminals to AVDD.", 2 NC "Connect unused terminals to AVDD.", 3 NC "Connect unused terminals to AVDD.", 4 NC "Connect unused terminals to AVDD.", 17 NC "Connect unused terminals to AVDD.", 18 NC "Connect unused terminals to AVDD.", 27 NC "No connection", 29 NC "No connection"

## ADS1296RIZXGR
designator U?
6-Channel, 24-Bit ADC with Integrated Respiration Impedance and ECG Front End, -40 to 85 degC, 64-pin BGA (ZXG64), Green (RoHS & no Sb/Br); Manufacturer: Texas Instruments; PartNumber: ADS1296RIZXGR; # Input Channels: 6; Analog Voltage AV/DD(Max)(V): 5.25; Analog Voltage AV/DD(Min)(V): 2.7; Architecture: Delta-Sigma; Digital Supply(Max)(V): 3.6; Digital Supply(Min)(V): 1.65; Interface: Serial SPI; Resolution(Bits): 24; Sample Rate (max)(SPS): 32k; SNR(dB): 112; SubFamily: Low Power, 8-Bit, Dual 1.5 GSPS or Single 3.0 GSPS A/D Converter; DatasheetVersion: SBAS459I; PackageVersion: 4206838/A, 02/2005; PackageReference: ZXG64; PackageDescription: 64-Pin Plastic Ball Grid Array, Body 8 x 8 mm, Pitch 0.8 mm; Supplier 1: Digi-Key; Supplier Part Number 1: 296-25895-2-ND; Supplier 2: Digi-Key; Supplier Part Number 2: 296-25895-1-ND; Supplier 3: Digi-Key; Supplier Part Number 3: 296-25895-6-ND; Supplier 4: Mouser; Supplier Part Number 4: 595-ADS1241E/1K; Eco-Plan: Green (RoHS & no Sb/Br); Mounting Technology: Surface Mount; ComponentLink1Description: Manufacturer URL; ComponentLink1URL: http://www.ti.com/; ComponentLink2Description: Datasheet; ComponentLink2URL: http://www.ti.com/general/docs/lit/getliterature.tsp?genericPartNumber=ADS1296R&fileType=pdf; ComponentLink3Description: Package Specification; ComponentLink3URL: http://www.ti.com/litv/pdf/mpbg581
footprint TI-ZXG64 (BGA, 64-Balls, Body 8x8mm, Pitch 0.8mm)
part A pins: A3 RLDIN (in) "Right leg drive input to MUX", B3 RLDOUT (out) "Right leg drive output", B7 VCAP3 "Analog bypass capacitor; internally generated AVDD + 1.9V.", B8 CLKSEL (in) "Master clock select", C1 IN6P (in) "Differential analog positive input 6 (ADS1296/8/6R/8R)", C2 IN6N (in) "Differential analog negative input 6 (ADS1296/8/6R/8R)", C3 RLDINV (in) "Right leg drive inverting input", C4 RLDREF (in) "Right leg drive noninverting input", D1 IN5P (in) "Differential analog positive input 5 (ADS1296/8/6R/8R)", D2 IN5N (in) "Differential analog negative input 5 (ADS1296/8/6R/8R)", D3 WCT (out) "Wilson Central Terminal output", D6 ~{DRDY} (out) "Data ready; active low", E1 IN4P (in) "Differential analog positive input 4", E2 IN4N (in) "Differential analog negative input 4", E3 TESTP_PACE_OUT1 (io) "Internal test signal/single-ended buffer output based on register settings", E5 GPIO4 (io) "GPIO4 in normal mode", E6 GPIO3 (io) "GPIO3 in normal mode", E7 GPIO2 (io) "General-purpose input/output pin", E8 DOUT (hiz) "SPI data out", F1 IN3P (in) "Differential analog positive input 3", F2 IN3N (in) "Differential analog negative input 3", F3 TESTN_PACE_OUT2 (io) "Internal test signal/single-ended buffer output based on register settings", F4 RESP_MODN "ADS1294R/6R/8R: modulation clock for respiration measurement, negative side. ADS1294/6/8: leave floating.", F5 GPIO1 (io) "General purpose input/output pin", F6 DAISY_IN (in) "Daisy-chain input; if not used, short to DGND.", F7 ~{CS} (in) "SPI chip select; active low", F8 SCLK (in) "SPI clock", G1 IN2P (in) "Differential analog positive input 2", G2 IN2N (in) "Differential analog negative input 2", G3 VCAP4 "Analog bypass capacitor", G4 RESP_MODP "ADS1294R/6R/8R: modulation clock for respiration measurement, positive side. ADS1294/6/8: leave floating.", G5 ~{PWDN} (in) "Power-down; active low", G6 ~{RESET} (in) "System reset; active low", G7 START (in) "Start conversion", G8 CLK (io) "External Master clock input or internal clock output.", H1 IN1P (in) "Differential analog positive input 1", H2 IN1N (in) "Differential analog negative input 1", H3 VREFP (in) "Positive reference voltage", H4 VREFN (in) "Negative reference voltage", H5 VCAP1 "Analog bypass capacitor", H6 VCAP2 "Analog bypass capacitor", H8 DIN (in) "SPI data in"
part B pins: A4 AVDD (power) "Analog supply", A5 AVSS (power) "Analog ground", A6 AVDD (power) "Analog supply", A7 AVDD1 (power) "Analog supply for charge pump", A8 AVSS1 (power) "Analog ground for charge pump", B4 AVDD (power) "Analog supply", B5 AVSS (power) "Analog ground", B6 AVDD (power) "Analog supply", C5 AVSS (power) "Analog ground", C6 AVDD (power) "Analog supply", C7 DGND (power) "Digital ground", C8 DVDD (power) "Digital power supply", D4 AVSS (power) "Analog ground", D5 AVSS (power) "Analog ground", D7 DGND (power) "Digital ground", D8 DVDD (power) "Digital power supply", E4 RESV1 (power) "Reserved for future use; must tie to logic low (DGND).", H7 DGND (power) "Digital ground"
part C pins: A1 NC "Connect unused terminals to AVDD.", A2 NC "Connect unused terminals to AVDD.", B1 NC "Connect unused terminals to AVDD.", B2 NC "Connect unused terminals to AVDD."

## ADS1296RIZXGT
designator U?
6-Channel, 24-Bit ADC with Integrated Respiration Impedance and ECG Front End, -40 to 85 degC, 64-pin BGA (ZXG64), Green (RoHS & no Sb/Br); Manufacturer: Texas Instruments; PartNumber: ADS1296RIZXGT; # Input Channels: 6; Analog Voltage AV/DD(Max)(V): 5.25; Analog Voltage AV/DD(Min)(V): 2.7; Architecture: Delta-Sigma; Digital Supply(Max)(V): 3.6; Digital Supply(Min)(V): 1.65; Interface: Serial SPI; Resolution(Bits): 24; Sample Rate (max)(SPS): 32k; SNR(dB): 112; SubFamily: Low Power, 8-Bit, Dual 1.5 GSPS or Single 3.0 GSPS A/D Converter; DatasheetVersion: SBAS459I; PackageVersion: 4206838/A, 02/2005; PackageReference: ZXG64; PackageDescription: 64-Pin Plastic Ball Grid Array, Body 8 x 8 mm, Pitch 0.8 mm; Supplier 1: Digi-Key; Supplier Part Number 1: ADS1241E/1KG4-ND; Supplier 2: Mouser; Supplier Part Number 2: 595-ADS1241E/1KG4; Eco-Plan: Green (RoHS & no Sb/Br); Mounting Technology: Surface Mount; ComponentLink1Description: Manufacturer URL; ComponentLink1URL: http://www.ti.com/; ComponentLink2Description: Datasheet; ComponentLink2URL: http://www.ti.com/general/docs/lit/getliterature.tsp?genericPartNumber=ADS1296R&fileType=pdf; ComponentLink3Description: Package Specification; ComponentLink3URL: http://www.ti.com/litv/pdf/mpbg581
footprint TI-ZXG64 (BGA, 64-Balls, Body 8x8mm, Pitch 0.8mm)
part A pins: A3 RLDIN (in) "Right leg drive input to MUX", B3 RLDOUT (out) "Right leg drive output", B7 VCAP3 "Analog bypass capacitor; internally generated AVDD + 1.9V.", B8 CLKSEL (in) "Master clock select", C1 IN6P (in) "Differential analog positive input 6 (ADS1296/8/6R/8R)", C2 IN6N (in) "Differential analog negative input 6 (ADS1296/8/6R/8R)", C3 RLDINV (in) "Right leg drive inverting input", C4 RLDREF (in) "Right leg drive noninverting input", D1 IN5P (in) "Differential analog positive input 5 (ADS1296/8/6R/8R)", D2 IN5N (in) "Differential analog negative input 5 (ADS1296/8/6R/8R)", D3 WCT (out) "Wilson Central Terminal output", D6 ~{DRDY} (out) "Data ready; active low", E1 IN4P (in) "Differential analog positive input 4", E2 IN4N (in) "Differential analog negative input 4", E3 TESTP_PACE_OUT1 (io) "Internal test signal/single-ended buffer output based on register settings", E5 GPIO4 (io) "GPIO4 in normal mode", E6 GPIO3 (io) "GPIO3 in normal mode", E7 GPIO2 (io) "General-purpose input/output pin", E8 DOUT (hiz) "SPI data out", F1 IN3P (in) "Differential analog positive input 3", F2 IN3N (in) "Differential analog negative input 3", F3 TESTN_PACE_OUT2 (io) "Internal test signal/single-ended buffer output based on register settings", F4 RESP_MODN "ADS1294R/6R/8R: modulation clock for respiration measurement, negative side. ADS1294/6/8: leave floating.", F5 GPIO1 (io) "General purpose input/output pin", F6 DAISY_IN (in) "Daisy-chain input; if not used, short to DGND.", F7 ~{CS} (in) "SPI chip select; active low", F8 SCLK (in) "SPI clock", G1 IN2P (in) "Differential analog positive input 2", G2 IN2N (in) "Differential analog negative input 2", G3 VCAP4 "Analog bypass capacitor", G4 RESP_MODP "ADS1294R/6R/8R: modulation clock for respiration measurement, positive side. ADS1294/6/8: leave floating.", G5 ~{PWDN} (in) "Power-down; active low", G6 ~{RESET} (in) "System reset; active low", G7 START (in) "Start conversion", G8 CLK (io) "External Master clock input or internal clock output.", H1 IN1P (in) "Differential analog positive input 1", H2 IN1N (in) "Differential analog negative input 1", H3 VREFP (in) "Positive reference voltage", H4 VREFN (in) "Negative reference voltage", H5 VCAP1 "Analog bypass capacitor", H6 VCAP2 "Analog bypass capacitor", H8 DIN (in) "SPI data in"
part B pins: A4 AVDD (power) "Analog supply", A5 AVSS (power) "Analog ground", A6 AVDD (power) "Analog supply", A7 AVDD1 (power) "Analog supply for charge pump", A8 AVSS1 (power) "Analog ground for charge pump", B4 AVDD (power) "Analog supply", B5 AVSS (power) "Analog ground", B6 AVDD (power) "Analog supply", C5 AVSS (power) "Analog ground", C6 AVDD (power) "Analog supply", C7 DGND (power) "Digital ground", C8 DVDD (power) "Digital power supply", D4 AVSS (power) "Analog ground", D5 AVSS (power) "Analog ground", D7 DGND (power) "Digital ground", D8 DVDD (power) "Digital power supply", E4 RESV1 (power) "Reserved for future use; must tie to logic low (DGND).", H7 DGND (power) "Digital ground"
part C pins: A1 NC "Connect unused terminals to AVDD.", A2 NC "Connect unused terminals to AVDD.", B1 NC "Connect unused terminals to AVDD.", B2 NC "Connect unused terminals to AVDD."

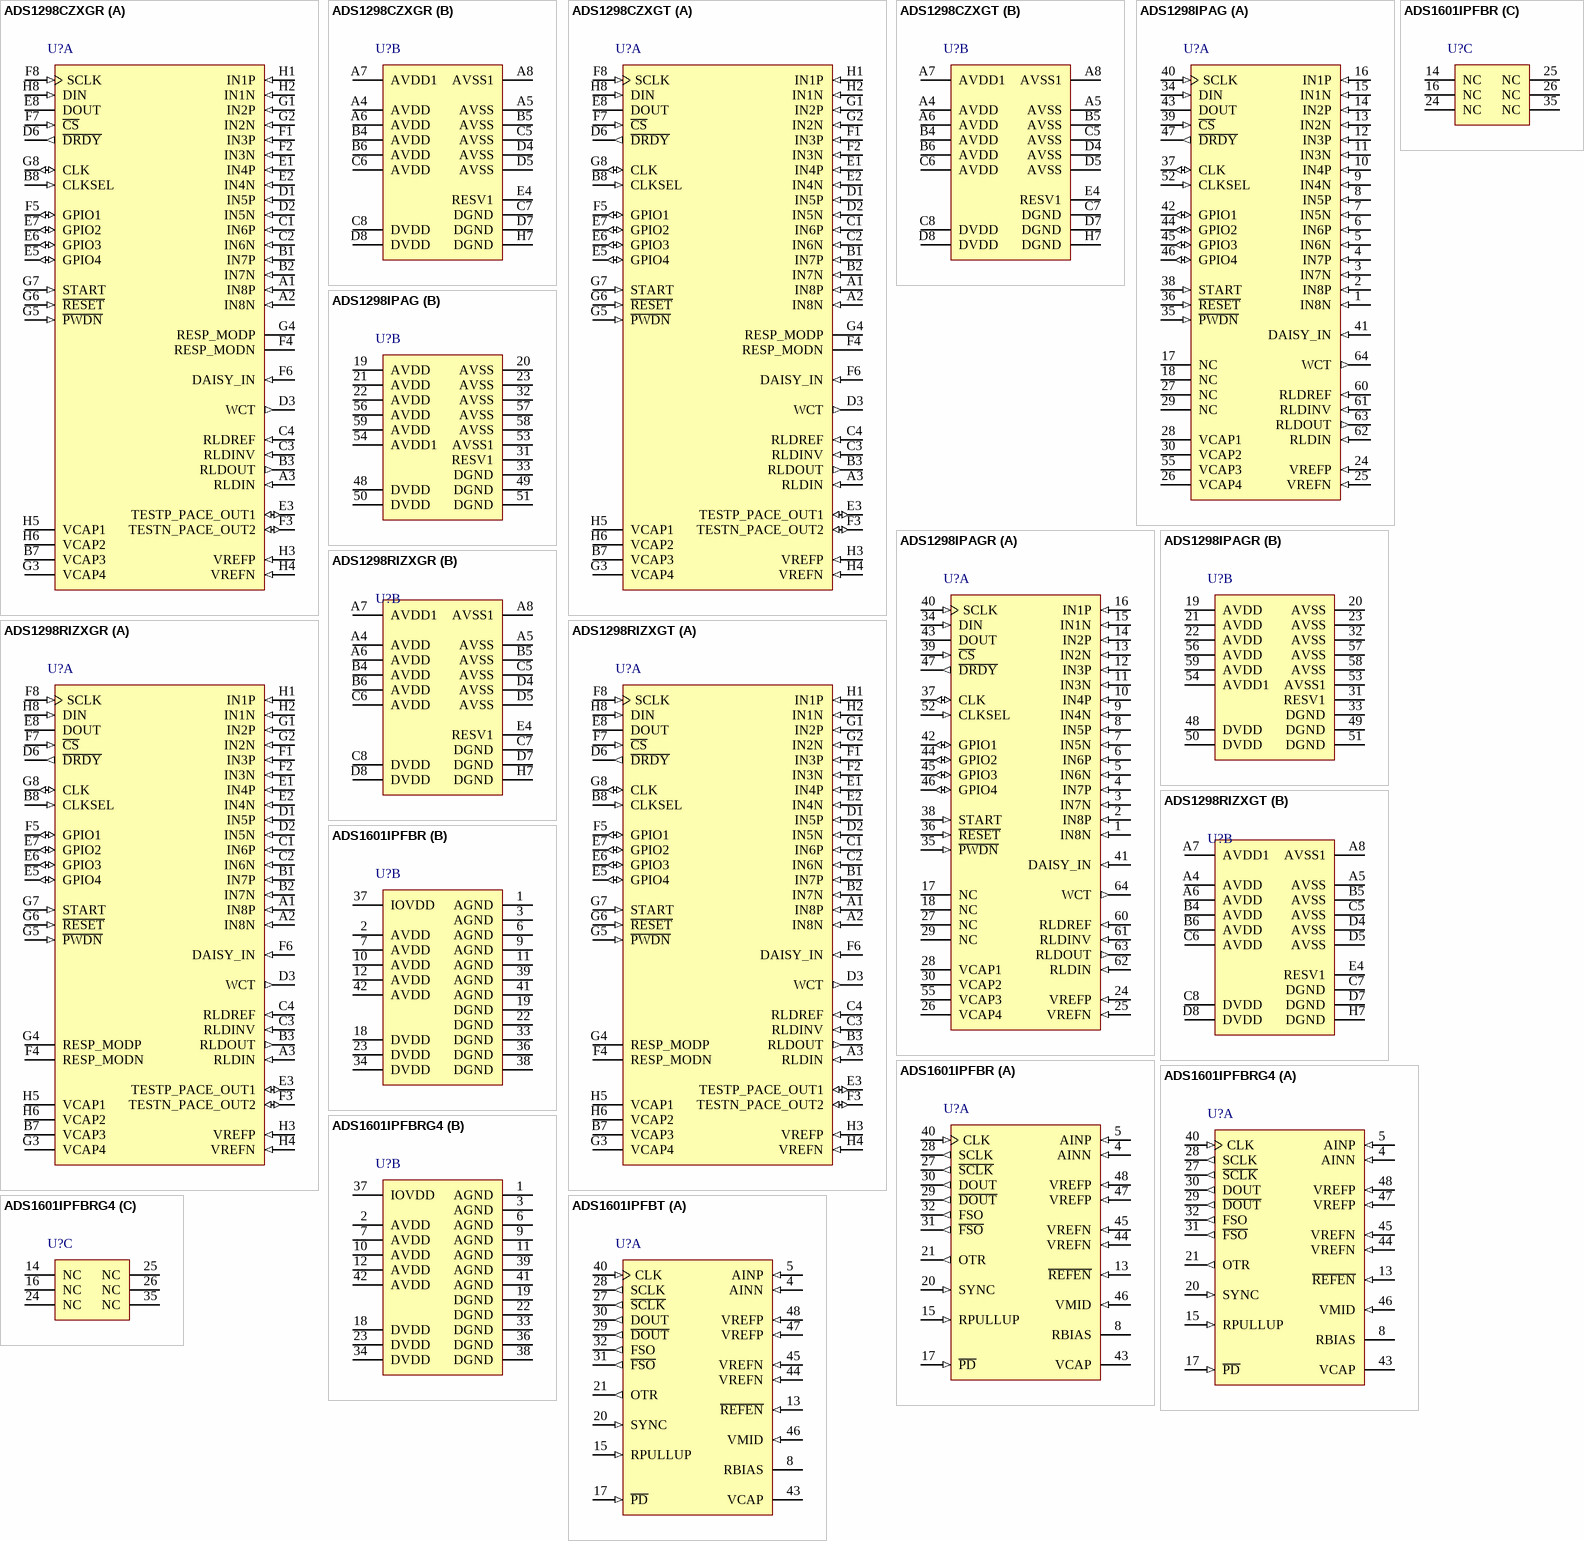
[diagram p28: symbols ADS1298CZXGR to ADS1601IPFBT]

## ADS1298CZXGR
designator U?
8-Channel, 24-Bit ADC with Integrated ECG Front End, 0 to 70 degC, 64-pin BGA (ZXG64), Green (RoHS & no Sb/Br); Manufacturer: Texas Instruments; PartNumber: ADS1298CZXGR; # Input Channels: 8; Analog Voltage AV/DD(Max)(V): 5.25; Analog Voltage AV/DD(Min)(V): 2.7; Architecture: Delta-Sigma; Digital Supply(Max)(V): 3.6; Digital Supply(Min)(V): 1.65; Interface: Serial SPI; Resolution(Bits): 24; Sample Rate (max)(SPS): 32K; SNR(dB): 112; SubFamily: Precision ADC (<=10MSPS); DatasheetVersion: SBAS459I; PackageVersion: 4206838/A, 02/2005; PackageReference: ZXG64; PackageDescription: 64-Pin Plastic Ball Grid Array, Body 8 x 8 mm, Pitch 0.8 mm; Supplier 1: Digi-Key; Supplier Part Number 1: ADS1241EG4-ND; Supplier 2: Mouser; Supplier Part Number 2: 595-ADS1241EG4; Eco-Plan: Green (RoHS & no Sb/Br); Mounting Technology: Surface Mount; ComponentLink1Description: Manufacturer URL; ComponentLink1URL: http://www.ti.com/; ComponentLink2Description: Datasheet; ComponentLink2URL: http://www.ti.com/general/docs/lit/getliterature.tsp?genericPartNumber=ADS1298&fileType=pdf; ComponentLink3Description: Package Specification; ComponentLink3URL: http://www.ti.com/litv/pdf/mpbg581
footprint TI-ZXG64 (BGA, 64-Balls, Body 8x8mm, Pitch 0.8mm)
part A pins: A1 IN8P (in) "Differential analog positive input 8 (ADS1298/8R)", A2 IN8N (in) "Differential analog negative input 8 (ADS1298/8R)", A3 RLDIN (in) "Right leg drive input to MUX", B1 IN7P (in) "Differential analog positive input 7 (ADS1298/8R)", B2 IN7N (in) "Differential analog negative input 7 (ADS1298/8R)", B3 RLDOUT (out) "Right leg drive output", B7 VCAP3 "Analog bypass capacitor; internally generated AVDD + 1.9V.", B8 CLKSEL (in) "Master clock select", C1 IN6P (in) "Differential analog positive input 6 (ADS1296/8/6R/8R)", C2 IN6N (in) "Differential analog negative input 6 (ADS1296/8/6R/8R)", C3 RLDINV (in) "Right leg drive inverting input", C4 RLDREF (in) "Right leg drive noninverting input", D1 IN5P (in) "Differential analog positive input 5 (ADS1296/8/6R/8R)", D2 IN5N (in) "Differential analog negative input 5 (ADS1296/8/6R/8R)", D3 WCT (out) "Wilson Central Terminal output", D6 ~{DRDY} (out) "Data ready; active low", E1 IN4P (in) "Differential analog positive input 4", E2 IN4N (in) "Differential analog negative input 4", E3 TESTP_PACE_OUT1 (io) "Internal test signal/single-ended buffer output based on register settings", E5 GPIO4 (io) "GPIO4 in normal mode", E6 GPIO3 (io) "GPIO3 in normal mode", E7 GPIO2 (io) "General-purpose input/output pin", E8 DOUT (hiz) "SPI data out", F1 IN3P (in) "Differential analog positive input 3", F2 IN3N (in) "Differential analog negative input 3", F3 TESTN_PACE_OUT2 (io) "Internal test signal/single-ended buffer output based on register settings", F4 RESP_MODN "ADS1294R/6R/8R: modulation clock for respiration measurement, negative side. ADS1294/6/8: leave floating.", F5 GPIO1 (io) "General purpose input/output pin", F6 DAISY_IN (in) "Daisy-chain input; if not used, short to DGND.", F7 ~{CS} (in) "SPI chip select; active low", F8 SCLK (in) "SPI clock", G1 IN2P (in) "Differential analog positive input 2", G2 IN2N (in) "Differential analog negative input 2", G3 VCAP4 "Analog bypass capacitor", G4 RESP_MODP "ADS1294R/6R/8R: modulation clock for respiration measurement, positive side. ADS1294/6/8: leave floating.", G5 ~{PWDN} (in) "Power-down; active low", G6 ~{RESET} (in) "System reset; active low", G7 START (in) "Start conversion", G8 CLK (io) "External Master clock input or internal clock output.", H1 IN1P (in) "Differential analog positive input 1", H2 IN1N (in) "Differential analog negative input 1", H3 VREFP (in) "Positive reference voltage", H4 VREFN (in) "Negative reference voltage", H5 VCAP1 "Analog bypass capacitor", H6 VCAP2 "Analog bypass capacitor", H8 DIN (in) "SPI data in"
part B pins: A4 AVDD (power) "Analog supply", A5 AVSS (power) "Analog ground", A6 AVDD (power) "Analog supply", A7 AVDD1 (power) "Analog supply for charge pump", A8 AVSS1 (power) "Analog ground for charge pump", B4 AVDD (power) "Analog supply", B5 AVSS (power) "Analog ground", B6 AVDD (power) "Analog supply", C5 AVSS (power) "Analog ground", C6 AVDD (power) "Analog supply", C7 DGND (power) "Digital ground", C8 DVDD (power) "Digital power supply", D4 AVSS (power) "Analog ground", D5 AVSS (power) "Analog ground", D7 DGND (power) "Digital ground", D8 DVDD (power) "Digital power supply", E4 RESV1 (power) "Reserved for future use; must tie to logic low (DGND).", H7 DGND (power) "Digital ground"